# EAGLE library part BOARD-DA14580 (library mylib)
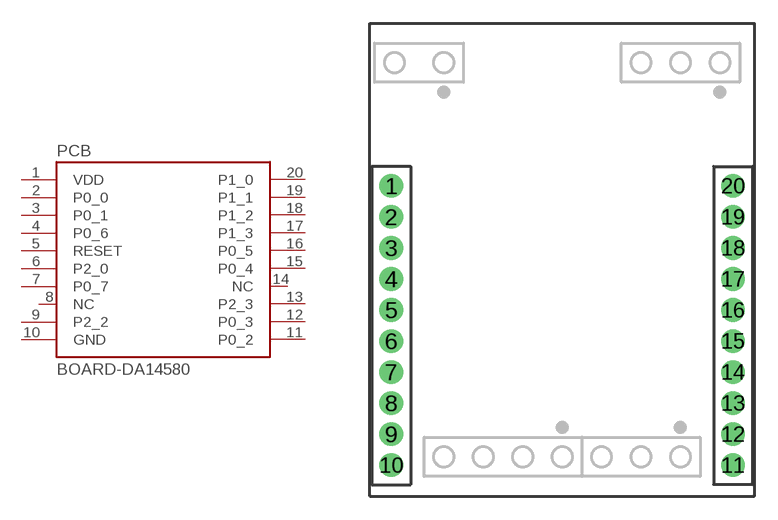
[diagram p98: symbol with the pads of DA14580MODULE; footprint DA14580MODULE]

Designator prefix PCB

## BOARD-DA14580  [DA14580MODULE]
1  VDD  pwr
2  P0_0  out
3  P0_1  in
4  P0_6
5  RESET  in
6  P2_0
7  P0_7
8  NC
9  P2_2
10  GND  pwr
11  P0_2
12  P0_3  out
13  P2_3
14  NC
15  P0_4
16  P0_5  in
17  P1_3
18  P1_2
19  P1_1
20  P1_0

## Footprint DA14580MODULE (pad centres in mm)
drill 0.8 pad 1.524: 1 -11,20; 2 -11,18; 3 -11,16; 4 -11,14; 5 -11,12; 6 -11,10; 7 -11,8; 8 -11,6; 9 -11,4; 10 -11,2; 11 11,2; 12 11,4; 13 11,6; 14 11,8; 15 11,10; 16 11,12; 17 11,14; 18 11,16; 19 11,18; 20 11,20